# Altium footprint library Sensors.PcbLib: 1 footprints
Each footprint in its own frame and in the unit in brackets; x right, y up, seen from the top. Pads: shape width x height; smd on the part's side, far side on the other; paste and mask are expansions set on the pad; w line width, h text height; cw(c..) or ccw(c..) is an arc to the next point about the centre after c.
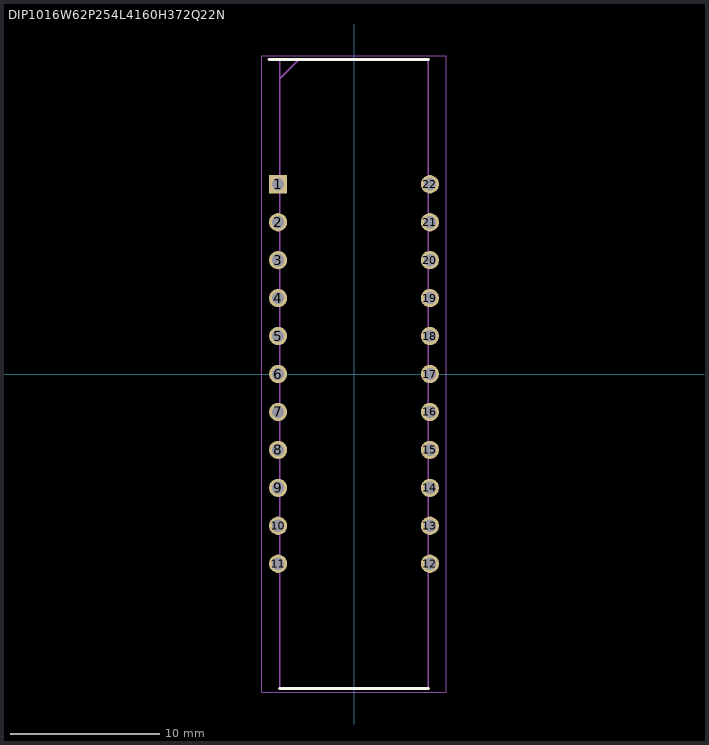
[diagram p0: the footprint, top view; thin cyan lines are the x and y axes]

## DIP1016W62P254L4160H372Q22N [mm]
pads (22):
  rect 1.22x1.22 / inner round 1.22 / far side rect 1.22x1.22 hole 0.82: 1(-5.08,12.7)
  round 1.22 hole 0.82: 2(-5.08,10.16) 3(-5.08,7.62) 4(-5.08,5.08) 5(-5.08,2.54) 6(-5.08,0) 7(-5.08,-2.54) 8(-5.08,-5.08) 9(-5.08,-7.62) 10(-5.08,-10.16) 11(-5.08,-12.7) 12(5.08,-12.7) 13(5.08,-10.16) 14(5.08,-7.62) 15(5.08,-5.08) 16(5.08,-2.54) 17(5.08,0) 18(5.08,2.54) 19(5.08,5.08) 20(5.08,7.62) 21(5.08,10.16) 22(5.08,12.7)
Top Overlay:
  lines w0.2: -5.69,21.05 4.975,21.05 ; -4.975,-21.05 4.975,-21.05
Mechanical 15:
  lines w0.1: -4.975,19.78 -3.705,21.05 ; -4.975,-21.05 -4.975,21.05 4.975,21.05 4.975,-21.05 -4.975,-21.05
Mechanical 20:
  lines w0.05: -6.19,-21.3 -6.19,21.3 6.19,21.3 6.19,-21.3 -6.19,-21.3
3D body "TCD1304DG_8Z,AW_.stp": height 3.72, standoff -3.5, extent -5.235,-20.8 5.235,20.8